# EAGLE library part 00SPEEDY_ER11.5_SMD_12PIN (library Wurth Electronics Midcom Inc V1-0)
Package Style: Speedy ER11.5 Mounting: SMD Pins: 12 pins Bobbin: 070-5279 Best pinouts for production vary per application. Please contact Wurth Electronics Midcom, Inc. for assistance with your custom design. Website: Wurth Electronics Midcom <http://www.we-online.com/midcom> Contact us Wurth Electronics Midcom, Inc. 121 Airport Dr. Watertown, SD 57201 Phone: (605) 886-4385 Fax: (605) 886-4486 E-Mail: midcom@we-online.com
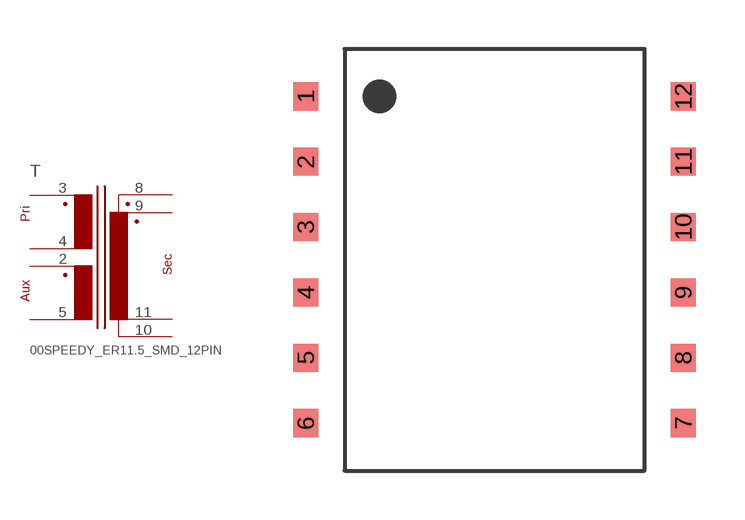
[diagram p126: symbol with the pads of 00SPEEDY_ER11.5_SMD_12PIN; footprint 00SPEEDY_ER11.5_SMD_12PIN]

Designator prefix T

## 00SPEEDY_ER11.5_SMD_12PIN  [00SPEEDY_ER11.5_SMD_12PIN]
2  3  pas
3  1  pas
4  2  pas
5  4  pas
8  5  pas
9  7  pas
10  6  pas
11  8  pas

## Footprint 00SPEEDY_ER11.5_SMD_12PIN (pad centres in mm)
Package Style: Speedy ER11.5 Mounting: SMD Pins: 12 pins Bobbin: 070-5279
smd 0.762 x 0.864: 1 -5.791,5.016; 2 -5.791,3.01; 3 -5.791,1.003; 4 -5.791,-1.003; 5 -5.791,-3.01; 6 -5.791,-5.016; 7 5.791,-5.016; 8 5.791,-3.01; 9 5.791,-1.003; 10 5.791,1.003; 11 5.791,3.01; 12 5.791,5.016